# EAGLE library part SEK18 (library pinhead_MDB)
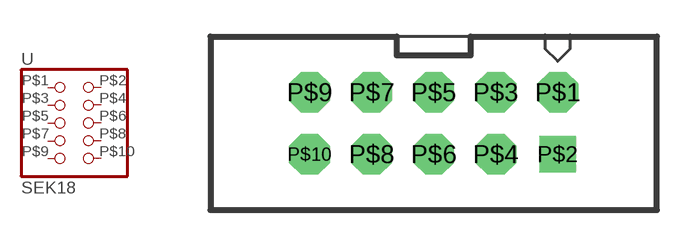
[diagram p54: symbol with the pads of SEK18_2X5; footprint SEK18_2X5]

Designator prefix -

## SEK18  [SEK18_2X5]
P$1  1  pas
P$2  2  pas
P$3  3  pas
P$4  4  pas
P$5  5  pas
P$6  6  pas
P$7  7  pas
P$8  8  pas
P$9  9  pas
P$10  10  pas

## Footprint SEK18_2X5 (pad centres in mm)
drill 0.6 pad 1.676 octagon: P$1 10.16,0; P$3 7.62,0; P$4 7.62,-2.54; P$5 5.08,0; P$6 5.08,-2.54; P$7 2.54,0; P$8 2.54,-2.54; P$9 0,0; P$10 0,-2.54
drill 0.6 pad 1.5 square: P$2 10.16,-2.54